# EAGLE library part 21-SMD-CONN (library ContunityTestingRig)
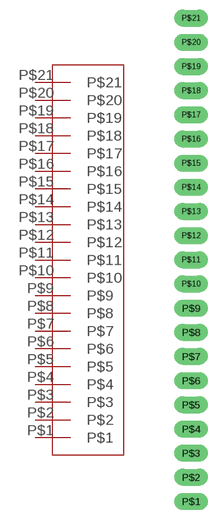
[diagram p0: symbol with the pads of 21-SMD-CONN; footprint 21-SMD-CONN]

Designator prefix -

## 21-SMD-CONN  [21-SMD-CONN]
P$1  P$1
P$2  P$2
P$3  P$3
P$4  P$4
P$5  P$5
P$6  P$6
P$7  P$7
P$8  P$8
P$9  P$9
P$10  P$10
P$11  P$11
P$12  P$12
P$13  P$13
P$14  P$14
P$15  P$15
P$16  P$16
P$17  P$17
P$18  P$18
P$19  P$19
P$20  P$20
P$21  P$21

## Footprint 21-SMD-CONN (pad centres in mm)
drill 0.62 pad 1.4 long: P$1 0,0; P$2 0,2; P$3 0,4; P$4 0,6; P$5 0,8; P$6 0,10; P$7 0,12; P$8 0,14; P$9 0,16; P$10 0,18; P$11 0,20; P$12 0,22; P$13 0,24; P$14 0,26; P$15 0,28; P$16 0,30; P$17 0,32; P$18 0,34; P$19 0,36; P$20 0,38; P$21 0,40